# Altium footprint library mbed-enablement-platform.PCBLIB: 51 footprints (part 1 of 4)
Each footprint in its own frame and in the unit in brackets; x right, y up, seen from the top. Pads: shape width x height; smd on the part's side, far side on the other; paste and mask are expansions set on the pad; w line width, h text height; cw(c..) or ccw(c..) is an arc to the next point about the centre after c.
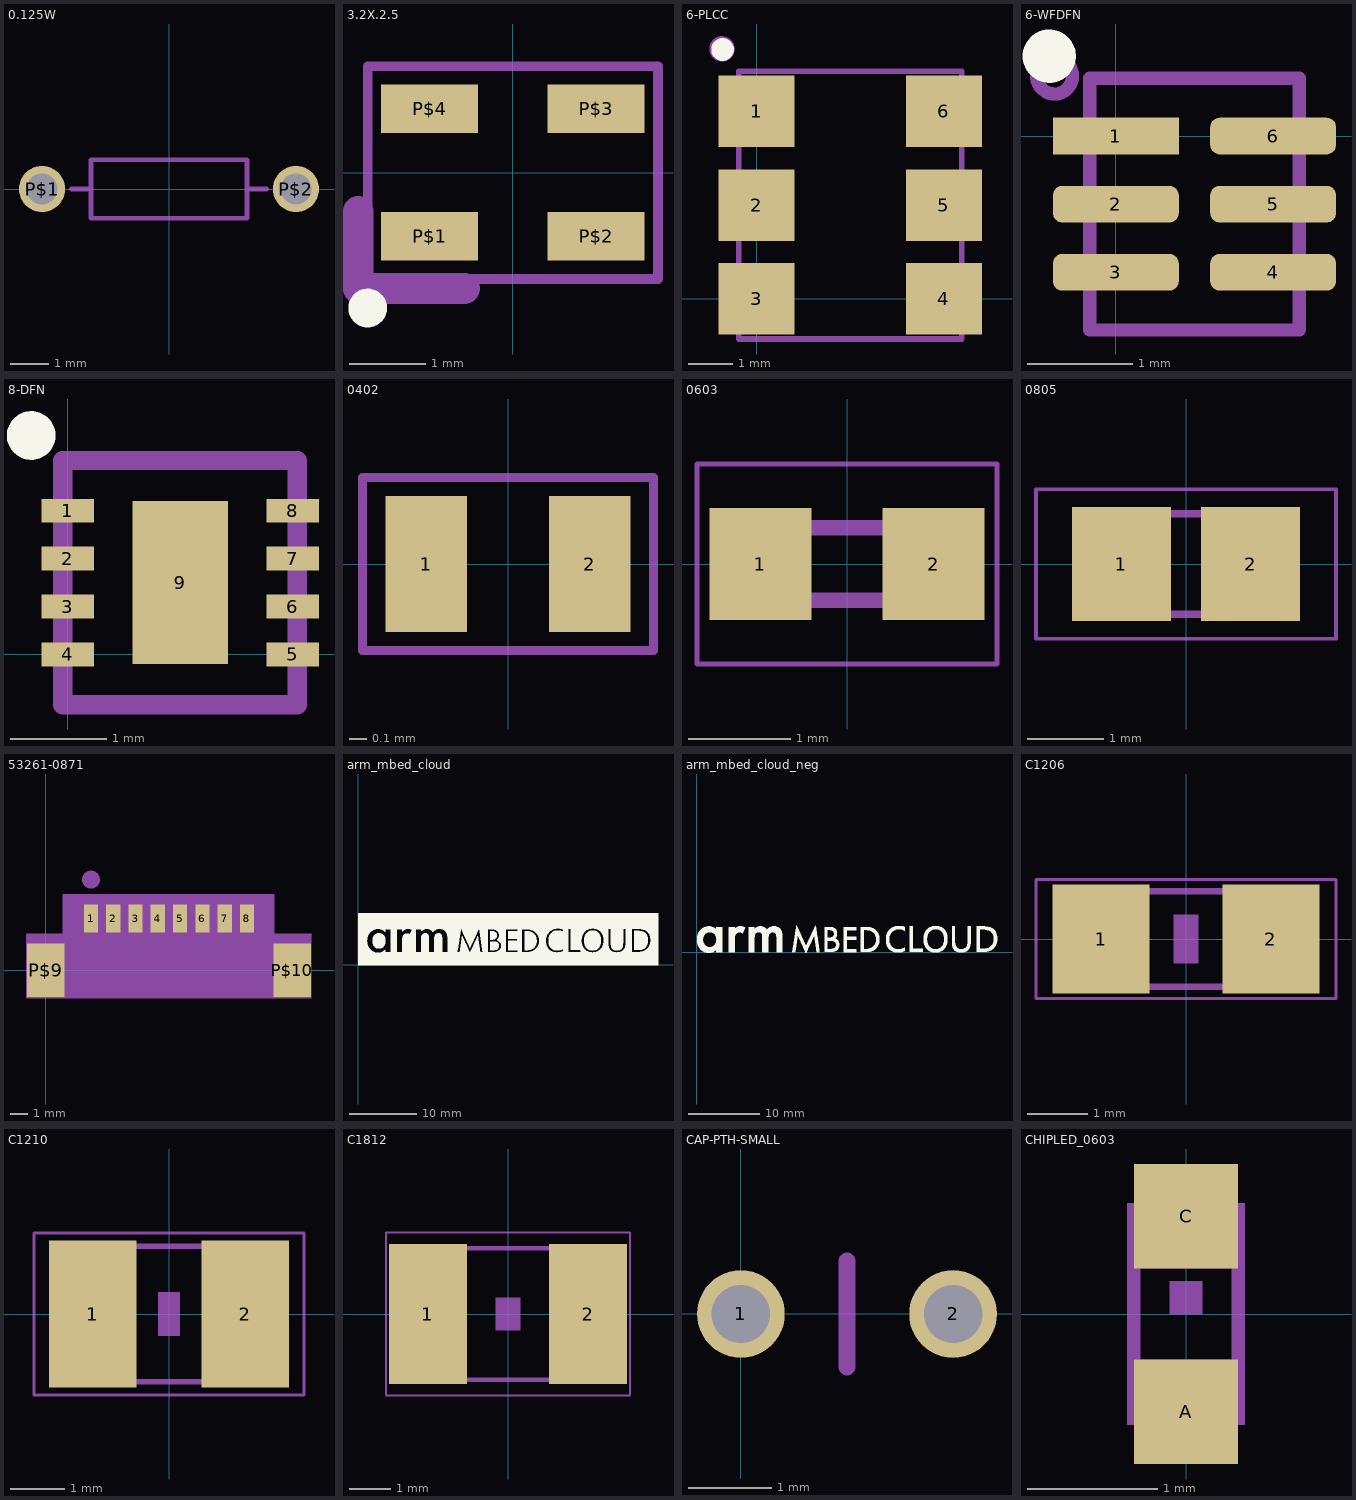
[diagram p0: the footprints below, top view; thin cyan lines are the x and y axes]

## 0.125W [mil]
pads (2):
  round 47.25 hole 31.5: P$1(-130,0) P$2(130,0)
Mechanical 2:
  lines w5: -80,-30 80,-30 80,30 -80,30 -80,-30
Mechanical 6:
  lines w5: -100,0 -80,0 ; 80,0 100,0

## 3.2X.2.5 [mil]
pads (4):
  rect 50x25 smd: P$1(-43,-33) P$2(43,-33) P$3(43,33) P$4(-43,33)
Top Overlay:
  circle w10: c-75,-70 r5
Mechanical 2:
  lines w5: -75,-55 -75,55 75,55 75,-55 -75,-55
  lines w16: -80,-20 -80,-60 -25,-60

## 6-PLCC [mm]
pads (6):
  rect 1.7x1.6 smd: 1(0,4.2) 2(0,2.1) 3(0,0) 4(4.2,0) 5(4.2,2.1) 6(4.2,4.2)
Top Overlay:
  circle w0.254: c-0.762,5.588 r0.127
Mechanical 2:
  circle w0.127: c-0.775,5.601 r0.222
  lines w0.127: -0.4,-0.9 -0.4,5.1 4.6,5.1 4.6,-0.9 -0.4,-0.9
3D body: height 2.5, standoff 0, extent -0.475,-0.9 4.525,5.1

## 6-WFDFN [mm]
pads (6):
  rect 1.2x0.35 smd: 1(0,0)
  rrect50% 1.2x0.35 smd: 2(0,-0.65) 3(0,-1.3) 4(1.5,-1.3) 5(1.5,-0.65) 6(1.5,0)
Top Overlay:
  circle w0.254: c-0.635,0.762 r0.127
Mechanical 2:
  circle w0.127: c-0.584,0.572 r0.171
  lines w0.127: -0.25,-1.85 1.75,-1.85 1.75,0.55 -0.25,0.55 -0.25,-1.85
3D body: height 0.91, standoff 0, extent -0.508,-1.524 1.905,0.254

## 8-DFN [mm]
pads (9):
  rect 0.55x0.25 smd: 1(0,1.5) 2(0,1) 3(0,0.5) 4(0,0) 5(2.35,0) 6(2.35,0.5) 7(2.35,1) 8(2.35,1.5)
  rect 1x1.7 smd: 9(1.175,0.75)
Top Overlay:
  circle w0.254: c-0.381,2.286 r0.127
Mechanical 2:
  circle w0.127: c-0.362,2.261 r0.126
  lines w0.203: -0.05,-0.525 2.4,-0.525 2.4,2.025 -0.05,2.025 -0.05,-0.525
3D body: height 0.91, standoff 0, extent -0.127,-0.508 2.413,2.032

## 0402 [mil]
pads (2):
  rect 18x30 smd: 1(-18,0) 2(18,0)
Mechanical 34:
  lines w2: -31.99,-19.02 -31.99,19.02 31.99,19.02 31.99,-19.02 -31.99,-19.02

## 0603 [mm]
pads (2):
  rect 1x1.1 smd: 1(-0.85,0) 2(0.85,0)
Mechanical 8:
  region: -0.838,-0.432 -0.838,0.432 -0.432,0.432 -0.432,-0.432
  region: 0.432,-0.432 0.432,0.432 0.838,0.432 0.838,-0.432
  lines w0.152: -0.432,-0.356 0.432,-0.356 ; -0.432,0.356 0.432,0.356
Mechanical 34:
  lines w0.051: -1.473,-0.983 -1.473,0.983 1.473,0.983 1.473,-0.983 -1.473,-0.983

## 0805 [mm]
pads (2):
  rect 1.3x1.5 smd: 1(-0.85,0) 2(0.85,0)
Mechanical 8:
  region: 0.356,-0.724 0.356,0.726 1.106,0.726 1.106,-0.724
  region: -1.092,-0.724 -1.092,0.726 -0.342,0.726 -0.342,-0.724
  lines w0.102: -0.381,0.66 0.381,0.66 ; -0.356,-0.66 0.381,-0.66
Mechanical 34:
  lines w0.051: -1.973,-0.983 -1.973,0.983 1.973,0.983 1.973,-0.983 -1.973,-0.983

## 53261-0871 [mil]
pads (10):
  rect 31.5x62.99 smd: 1(100.39,114.17) 2(149.61,114.17) 3(198.82,114.17) 4(248.03,114.17) 5(297.24,114.17) 6(346.46,114.17) 7(395.67,114.17) 8(444.88,114.17)
  rect 82.68x118.11 smd: P$9(0,0) P$10(545.28,0)
Mechanical 2:
  circle w39.37: c100,200 r0.2
  lines w5: -41.34,78.74 39.37,78.74 39.37,165.35 503.94,165.35 503.94,78.74 586.61,78.74
Mechanical 34:
  region: -42.5,-62.5 -42.5,77.5 587.5,77.5 587.5,-62.5
  region: 42.5,77.5 42.5,165 502.5,165 502.5,77.5

## arm_mbed_cloud [mm]
Top Overlay:
  drawing of 3247 lines, arcs and shapes, not listed

## arm_mbed_cloud_neg [mm]
Top Overlay:
  drawing of 2946 lines, arcs and shapes, not listed

## C1206 [mm]
pads (2):
  rect 1.6x1.8 smd: 1(-1.4,0) 2(1.4,0)
Mechanical 8:
  region: 0.952,-0.849 0.952,0.851 1.702,0.851 1.702,-0.849
  region: -1.702,-0.851 -1.702,0.849 -0.952,0.849 -0.952,-0.851
  lines w0.102: -0.965,-0.787 0.965,-0.787 ; -0.965,0.787 0.965,0.787
Mechanical 30:
  region: -0.2,-0.4 -0.2,0.4 0.2,0.4 0.2,-0.4
Mechanical 34:
  lines w0.051: -2.473,-0.983 -2.473,0.983 2.473,0.983 2.473,-0.983 -2.473,-0.983

## C1210 [mm]
pads (2):
  rect 1.6x2.7 smd: 1(-1.4,0) 2(1.4,0)
Mechanical 8:
  region: 0.952,-1.305 0.952,1.295 1.702,1.295 1.702,-1.305
  region: -1.702,-1.295 -1.702,1.305 -0.952,1.305 -0.952,-1.295
  lines w0.102: -0.965,-1.245 0.965,-1.245 ; -0.965,1.245 0.965,1.245
Mechanical 30:
  region: -0.2,-0.4 -0.2,0.4 0.2,0.4 0.2,-0.4
Mechanical 34:
  lines w0.051: -2.473,-1.483 -2.473,1.483 2.473,1.483 2.473,-1.483 -2.473,-1.483

## C1812 [mm]
pads (2):
  rect 1.9x3.4 smd: 1(-1.95,0) 2(1.95,0)
Mechanical 8:
  region: -2.388,-1.651 -2.388,1.649 -1.438,1.649 -1.438,-1.651
  region: 1.448,-1.651 1.448,1.649 2.398,1.649 2.398,-1.651
  lines w0.102: -1.473,1.6 1.473,1.6 ; -1.448,-1.6 1.473,-1.6
Mechanical 30:
  region: -0.3,-0.4 -0.3,0.4 0.3,0.4 0.3,-0.4
Mechanical 34:
  lines w0.051: -2.973,-1.983 2.973,-1.983 2.973,1.983 -2.973,1.983 -2.973,-1.983

## CAP-PTH-SMALL [mm]
pads (2):
  round 1.05 hole 0.7: 1(0,0) 2(2.54,0)
Mechanical 2:
  lines w0.203: 1.27,-0.635 1.27,0.635

## CHIPLED_0603 [mil]
pads (2):
  rect 31.5x31.5 smd: A(0,-29.53) C(0,29.53)
Mechanical 2:
  region: -4.92,0 -4.92,9.84 4.92,9.84 4.92,0
Mechanical 8:
  circle w2: c-13.78,24.61 r2.95
  region: 6.89,-25.59 6.89,-21.65 10.83,-21.65 10.83,-25.59
  region: -10.83,-25.59 -10.83,-21.65 -6.89,-21.65 -6.89,-25.59
  region: -10.83,-22.64 -10.83,-13.78 10.83,-13.78 10.83,-22.64
  region: 9.84,-33.46 9.84,-13.78 17.72,-13.78 17.72,-33.46
  region: -17.72,-33.46 -17.72,-13.78 -9.84,-13.78 -9.84,-33.46
  region: -17.72,13.78 -17.72,22.64 17.72,22.64 17.72,13.78
  region: 9.84,21.65 9.84,33.46 17.72,33.46 17.72,21.65
  region: -17.72,13.78 -17.72,28.54 -15.75,28.54 -15.75,13.78
  region: -10.83,21.65 -10.83,23.62 -8.86,23.62 -8.86,21.65
  region: -17.72,27.56 -17.72,33.46 -9.84,33.46 -9.84,27.56
  lines w2: -10.83,-32.48 cw(c0,-32.48) 10.83,-32.48
  lines w4: -15.75,-13.78 -15.75,14.76 ; -11.81,31.5 ccw(c0,32.53) 11.81,31.5 ; 15.75,-13.78 15.75,13.78